# Altium integrated library IntLib_Xedk.IntLib: 11 symbols
Pins are listed as number, name and electrical type; pins without a type are passive.

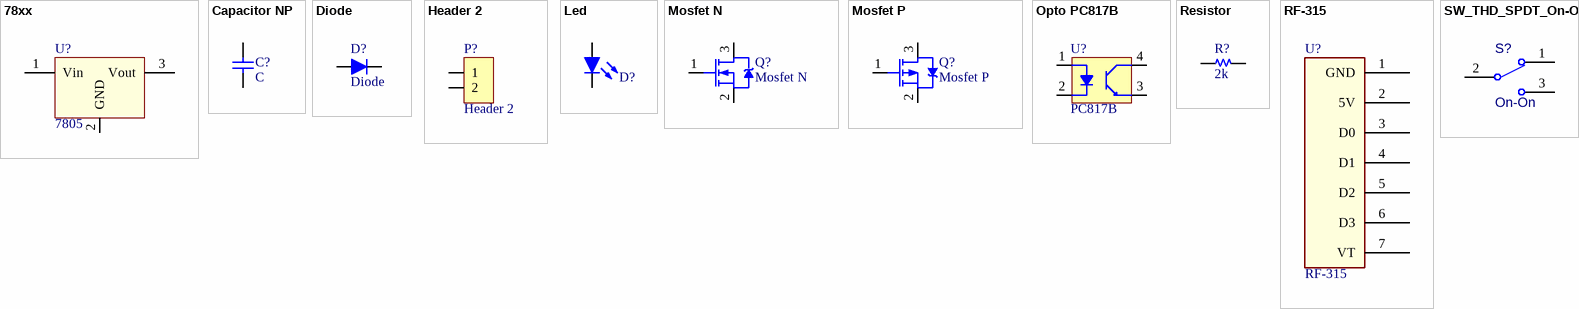
[diagram p0: symbols 78xx to SW_THD_SPDT_On-On]

## 78xx
designator U?, comment 7805
LDO Fixed Voltage regulator
footprint TO-220
pins: 1 Vin (power), 2 GND, 3 Vout

## Capacitor NP
designator C?, comment C
Capacitor non-pol
footprint CAP Ceramic/W300
pins: 1, 2

## Diode
designator D?
Default Diode
footprint DO-41
pins: 1 A, 2 K

## Header 2
designator P?
Header, 2-Pin
footprint HDR/Terminal/2/5mm (Header 2, 2 pin, hight 400mil, Pin to Pin 200mil, Colour Green)
pins: 1, 2

## Led
designator D?  (value not drawn)
Typical LED
footprint LED 5MM - GREEN
footprint LED 5MM - RED
pins: 1 A, 2 K

## Mosfet N
designator Q?
footprint TO-220; pin to pad 2>3 3>2
pins: 1 G, 2 S, 3 D

## Mosfet P
designator Q?
footprint TO-220; pin to pad 2>3 3>2
pins: 1 G, 2 S, 3 D

## Opto PC817B
designator U?, comment PC817B
footprint DIP 4 (DIP IC (2.54mm), 4 pins)
pins: 1 A, 2 K, 3 E, 4 C

## Resistor
designator R?, comment 2k
Resistor
footprint R 1/4W/300 (Through hole resitor, axial 300mils, 1/4W)
pins: 1, 2

## RF-315
designator U?
footprint RF-315 7 pins
pins: 1 GND, 2 5V, 3 D0, 4 D1, 5 D2, 6 D3, 7 VT

## SW_THD_SPDT_On-On
designator S?, comment ON-ON
Switch THD vertical toggle SPDT; Manufacturer 1: TE Connectivity; Manufacturer Part Number 1: SLS121PC04; Contact Rating @ Voltage: 0.25A @ 125VAC; SCDType: spec; Circuit: SPDT; Mounting Type: PCB mount; Supplier 1: Digi-Key; Supplier Part Number 1: 450-1598-ND; Switch Function: On-On
footprint SWITCH_SPDT_SLIDER (TE Connectivity SLS121PC04 SPDT slider)
footprint Switch
pins: 1, 2, 3